# Altium schematic symbol library 43160-3102.SchLib: 1 symbol
Pins are listed as number, name and electrical type; pins without a type are passive.

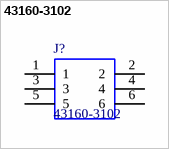
[diagram p0: symbol 43160-3102]

## 43160-3102
designator J?
2 way PCB header r/a socket,14-18 awg Molex SABRE Series, Series Number 43160, 7.49mm Pitch 2 Way 1 Row Shrouded Right Angle PCB Header, Through Hole; Allied_Number: 70372885; Geometry.Height: 11mm; Manufacturer_Name: Molex; Manufacturer_Part_Number: 43160-3102; RS Part Number: 3639982P; RS Price/Stock: http://uk.rs-online.com/web/p/products/3639982P; Allied Price/Stock: https://www.alliedelec.com/molex-incorporated-43160-3102/70372885/; Arrow Part Number: 43160-3102; Arrow Price/Stock: http://uk.rs-online.com/web/p/products/3639982P; Datasheet Link: https://www.molex.com/pdm_docs/sd/431603102_sd.pdf
footprint 431603102
pins: 1, 2, 3, 4, 5, 6